# Altium schematic symbol library FXAS21002CQR1.SchLib: 1 symbol
Pins are listed as number, name and electrical type; pins without a type are passive.

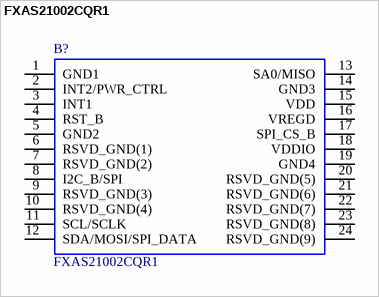
[diagram p0: symbol FXAS21002CQR1]

## FXAS21002CQR1
designator B?
Gyroscopes 3axis MEMS Gyroscope; Manufacturer_Name: Nexperia; Geometry.Height: mm; Supplier_Name: RS; RS Part Number: *; Manufacturer_Part_Number: FXAS21002CQR1; Allied_Number: *; Other Part Number: *; Datasheet Link: http://www.mouser.com/ds/2/302/FXAS21002-783424.pdf; 3D Package: *
footprint FXAS21002CQR1
pins: 1 GND1, 2 INT2/PWR_CTRL, 3 INT1, 4 RST_B, 5 GND2, 6 RSVD_GND(1), 7 RSVD_GND(2), 8 I2C_B/SPI, 9 RSVD_GND(3), 10 RSVD_GND(4), 11 SCL/SCLK, 12 SDA/MOSI/SPI_DATA, 13 SA0/MISO, 14 GND3, 15 VDD (power), 16 VREGD, 17 SPI_CS_B, 18 VDDIO (power), 19 GND4, 20 RSVD_GND(5), 21 RSVD_GND(6), 22 RSVD_GND(7), 23 RSVD_GND(8), 24 RSVD_GND(9)